# Altium footprint library nxp-package.PcbLib: 24 footprints (part 2 of 2)
Each footprint in its own frame and in the unit in brackets; x right, y up, seen from the top. Pads: shape width x height; smd on the part's side, far side on the other; paste and mask are expansions set on the pad; w line width, h text height; cw(c..) or ccw(c..) is an arc to the next point about the centre after c.
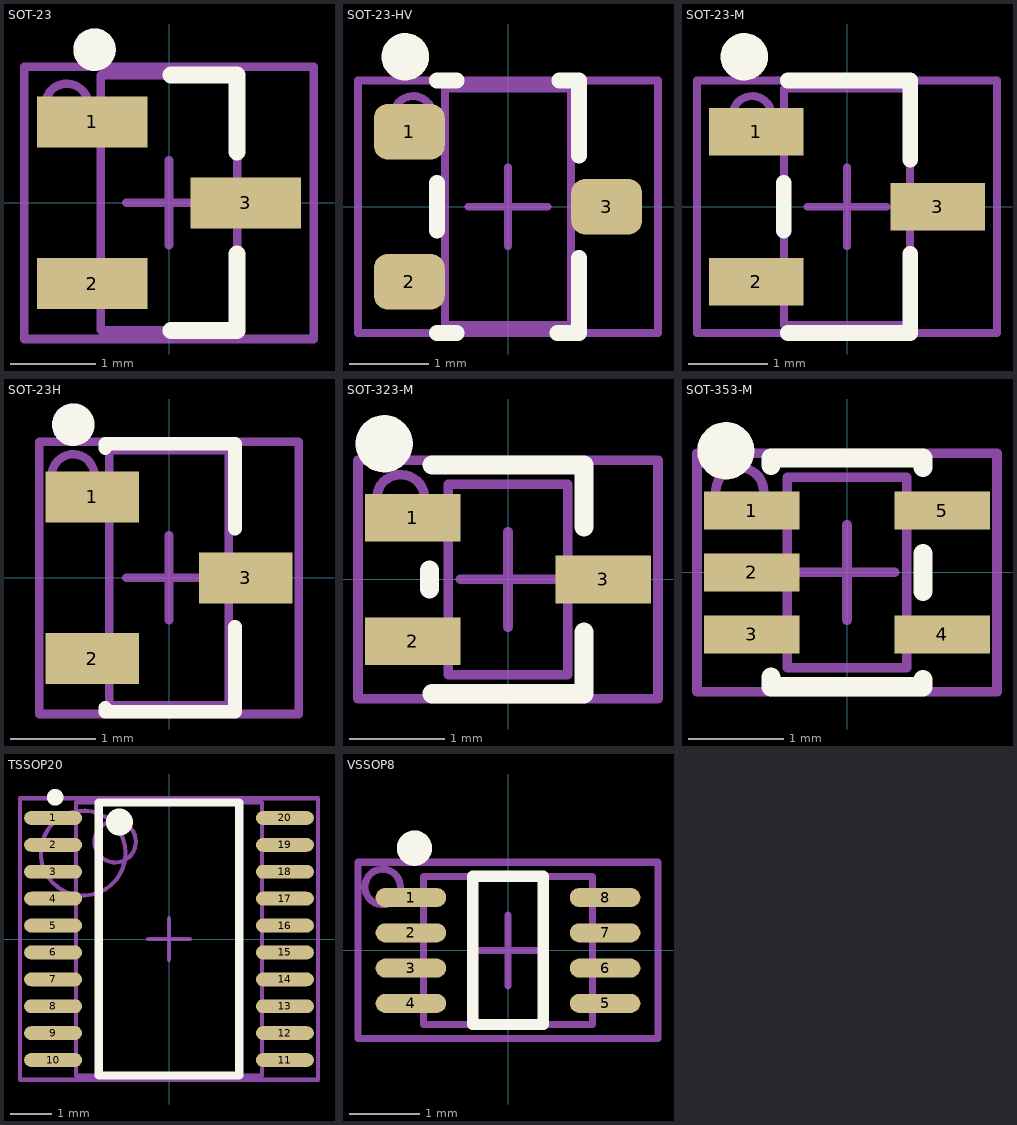
[diagram p1: the footprints below, top view; thin cyan lines are the x and y axes]

## SOT-23 [mm] "SOT23, 3-Leads, Body 3.0x2.8mm (max), Pitch 0.95mm, IPC High Density"
height 1.4
pads (3):
  rect 1.3x0.6 smd: 1(-0.9,0.95) 2(-0.9,-0.95) 3(0.9,0)
Top Overlay:
  circle w0.25: c-0.875,1.8 r0.125
  lines w0.2: 0.025,-1.5 0.8,-1.5 0.8,-0.6 ; 0.025,1.5 0.8,1.5 0.8,0.6
Mechanical 13:
  lines w0.1: -0.5,0 0.5,0 ; 0,-0.5 0,0.5 ; -0.8,-1.5 -0.8,1.5 0.8,1.5 0.8,-1.5 -0.8,-1.5
Mechanical 15:
  circle w0.1: c-1.201,1.15 r0.251
  lines w0.1: -1.7,-1.6 -1.7,1.6 1.7,1.6 1.7,-1.6 -1.7,-1.6
  text ".Designator" at -0.2,1.325 h0.5
3D body "User Library-sot23-1.step": height 1.02, standoff 0.02, extent -1.17,-1.46 1.17,1.46

## SOT-23-HV [mm] "SOT23, 3-Leads, Body 3.0x2.8mm (max), Pitch 0.95mm, IPC High Density"
height 1.4
pads (3):
  rrect50% 0.9x0.7 smd: 1(-1.25,0.95) 2(-1.25,-0.95) 3(1.25,0)
Top Overlay:
  circle w0.3: c-1.3,1.9 r0.15
  lines w0.2: -0.9,-1.6 -0.65,-1.6 ; -0.9,-0.3 -0.9,0.3 ; -0.9,1.6 -0.65,1.6 ; 0.625,-1.6 0.9,-1.6 0.9,-0.65 ; 0.65,1.6 0.9,1.6 0.9,0.65
Mechanical 13:
  lines w0.1: -0.5,0 0.5,0 ; 0,-0.5 0,0.5 ; -0.8,-1.5 0.8,-1.5 0.8,1.5 -0.8,1.5 -0.8,-1.5
Mechanical 15:
  circle w0.1: c-1.201,1.15 r0.251
  lines w0.1: -1.9,-1.6 1.9,-1.6 1.9,1.6 -1.9,1.6 -1.9,-1.6
  text ".Designator" at -0.2,1.325 h0.8
3D body "User Library-sot23-1.step": height 1.02, standoff 0.02, extent -1.17,-1.46 1.17,1.46

## SOT-23-M [mm] "SOT23, 3-Leads, Body 3.0x2.8mm (max), Pitch 0.95mm, Medium Density"
height 1.4
pads (3):
  rect 1.2x0.6 smd: 1(-1.15,0.95) 2(-1.15,-0.95) 3(1.15,0)
Top Overlay:
  circle w0.3: c-1.3,1.9 r0.15
  lines w0.2: -0.8,-0.3 -0.8,0.3 ; -0.75,-1.6 0.8,-1.6 0.8,-0.6 ; -0.75,1.6 0.8,1.6 0.8,0.6
Mechanical 13:
  lines w0.1: -0.5,0 0.5,0 ; 0,-0.5 0,0.5 ; -0.8,-1.5 0.8,-1.5 0.8,1.5 -0.8,1.5 -0.8,-1.5
Mechanical 15:
  circle w0.1: c-1.201,1.15 r0.251
  lines w0.1: -1.9,-1.6 1.9,-1.6 1.9,1.6 -1.9,1.6 -1.9,-1.6
  text ".Designator" at -0.2,1.325 h0.5
3D body "User Library-sot23-1.step": height 1.02, standoff 0.02, extent -1.17,-1.46 1.17,1.46

## SOT-23H [mm] "SOT23, 3-Leads, Body 3.0x2.5mm (max), Pitch 0.95mm, IPC High Density"
height 1.1
pads (3):
  rect 1.1x0.6 smd: 1(-0.9,0.95) 2(-0.9,-0.95) 3(0.9,0)
Top Overlay:
  circle w0.25: c-1.125,1.8 r0.125
  lines w0.16: -0.75,-1.525 -0.75,-1.575 0.775,-1.575 0.775,-0.575 ; -0.75,1.525 -0.75,1.575 0.775,1.575 0.775,0.575
Mechanical 13:
  lines w0.1: -0.5,0 0.5,0 ; 0,-0.5 0,0.5 ; -0.7,-1.5 0.7,-1.5 0.7,1.5 -0.7,1.5 -0.7,-1.5
Mechanical 15:
  circle w0.1: c-1.126,1.2 r0.251
  lines w0.1: -1.525,-1.6 1.525,-1.6 1.525,1.6 -1.525,1.6 -1.525,-1.6
  text ".Designator" at -0.2,1.325 h0.5
3D body "SOT23.step": height 1, standoff 0, extent -1.17,-1.46 1.17,1.46

## SOT-323-M [mm] "6-Lead Plastic surface-mounted package, 0.65mm pitch, SOT363/SC-88"
height 1.1
pads (3):
  rect 1x0.5 smd: 1(-1,0.65) 2(-1,-0.65) 3(1,0)
Top Overlay:
  circle w0.3: c-1.3,1.425 r0.15
  lines w0.2: -0.825,-0.1 -0.825,0.1 ; -0.8,-1.2 0.8,-1.2 0.8,-0.55 ; -0.8,1.2 0.8,1.2 0.8,0.55
Mechanical 13:
  lines w0.1: -0.5,0 0.5,0 ; 0,-0.5 0,0.5 ; -0.625,-1 -0.625,1 0.625,1 0.625,-1 -0.625,-1
Mechanical 15:
  circle w0.1: c-1.126,0.85 r0.251
  lines w0.1: -1.575,-1.25 -1.575,1.25 1.575,1.25 1.575,-1.25 -1.575,-1.25
  text ".Designator" at -0.2,1.125 h0.8
3D body "User Library-SC-70.STEP": height 1.13, standoff 0.02, extent -1.125,-1.125 1.125,1.125

## SOT-353-M [mm] "SOT23, 5-Leads, Body 2.2x2.2mm (max), Pitch 0.65mm, IPC High Density"
height 1.1
pads (5):
  rect 1x0.4 smd: 1(-1,0.65) 2(-1,0) 3(-1,-0.65) 4(1,-0.65) 5(1,0.65)
Top Overlay:
  circle w0.3: c-1.272,1.278 r0.15
  lines w0.2: -0.8,-1.1 -0.8,-1.2 0.8,-1.2 0.8,-1.125 ; -0.8,1.125 -0.8,1.2 0.8,1.2 0.8,1.1 ; 0.8,-0.2 0.8,0.2
Mechanical 13:
  lines w0.1: -0.5,0 0.5,0 ; 0,-0.5 0,0.5 ; -0.625,-1 -0.625,1 0.625,1 0.625,-1 -0.625,-1
Mechanical 15:
  circle w0.1: c-1.126,0.85 r0.251
  lines w0.1: -1.575,-1.25 -1.575,1.25 1.575,1.25 1.575,-1.25 -1.575,-1.25
  text ".Designator" at -0.225,0.975 h0.5
3D body "SC70-5.step": height 0.95, standoff -0.02, extent -1.1,-1 1.1,1

## TSSOP20 [mm] "TSOP, 20-Leads, Body 6.6x4.5mm (max), Pitch 0.65mm, IPC High Density"
height 1.1
pads (20):
  oval 1.4x0.335 smd: 1(-2.8,2.925) 2(-2.8,2.275) 3(-2.8,1.625) 4(-2.8,0.975) 5(-2.8,0.325) 6(-2.8,-0.325) 7(-2.8,-0.975) 8(-2.8,-1.625) 9(-2.8,-2.275) 10(-2.8,-2.925) 11(2.8,-2.925) 12(2.8,-2.275) 13(2.8,-1.625) 14(2.8,-0.975) 15(2.8,-0.325) 16(2.8,0.325) 17(2.8,0.975) 18(2.8,1.625) 19(2.8,2.275) 20(2.8,2.925)
Top Overlay:
  circle w0.6: c-1.2,2.825 r0.025
  circle w0.3: c-2.75,3.425 r0.05
  lines w0.2: -1.7,-3.3 1.7,-3.3 1.7,3.3 -1.7,3.3 -1.7,-3.3
Mechanical 13:
  circle w0.1: c-1.3,2.35 r0.5
  lines w0.1: -0.5,0 0.5,0 ; 0,-0.5 0,0.5 ; -2.25,-3.3 2.25,-3.3 2.25,3.3 -2.25,3.3 -2.25,-3.3
Mechanical 15:
  circle w0.1: c-2.076,2.075 r1.025
  lines w0.1: -3.6,-3.4 3.6,-3.4 3.6,3.4 -3.6,3.4 -3.6,-3.4
  text ".Designator" at 0.225,-0.875 h0.5
3D body "tssop-20.step": height 1.25, standoff 0, extent -3.228,-3.3 3.228,3.3

## VSSOP8 [mm] "VSSOP, 8-Leads, Body 2.1x2.4mm (max), Pitch 0.50mm, IPC High Density"
height 0.9
pads (8):
  oval 1x0.27 smd: 1(-1.375,0.75) 2(-1.375,0.25) 3(-1.375,-0.25) 4(-1.375,-0.75) 5(1.375,-0.75) 6(1.375,-0.25) 7(1.375,0.25) 8(1.375,0.75)
Top Overlay:
  circle w0.25: c-1.325,1.45 r0.125
  lines w0.16: -0.5,-1.05 -0.5,1.05 0.5,1.05 0.5,-1.05 -0.5,-1.05
Mechanical 13:
  lines w0.1: -0.5,0 0.5,0 ; 0,-0.5 0,0.5 ; -1.2,-1.05 -1.2,1.05 1.2,1.05 1.2,-1.05 -1.2,-1.05
Mechanical 15:
  circle w0.1: c-1.776,0.9 r0.251
  lines w0.1: -2.125,-1.25 -2.125,1.25 2.125,1.25 2.125,-1.25 -2.125,-1.25
  text ".Designator" at 0.275,-0.95 h0.5
3D body "User Library-VSSOP8.step": height 0.83, standoff -0.02, extent -1.551,-1.15 1.551,1.15